# EAGLE library part PORT_EXPANSION_64_EDGE (library commodore)
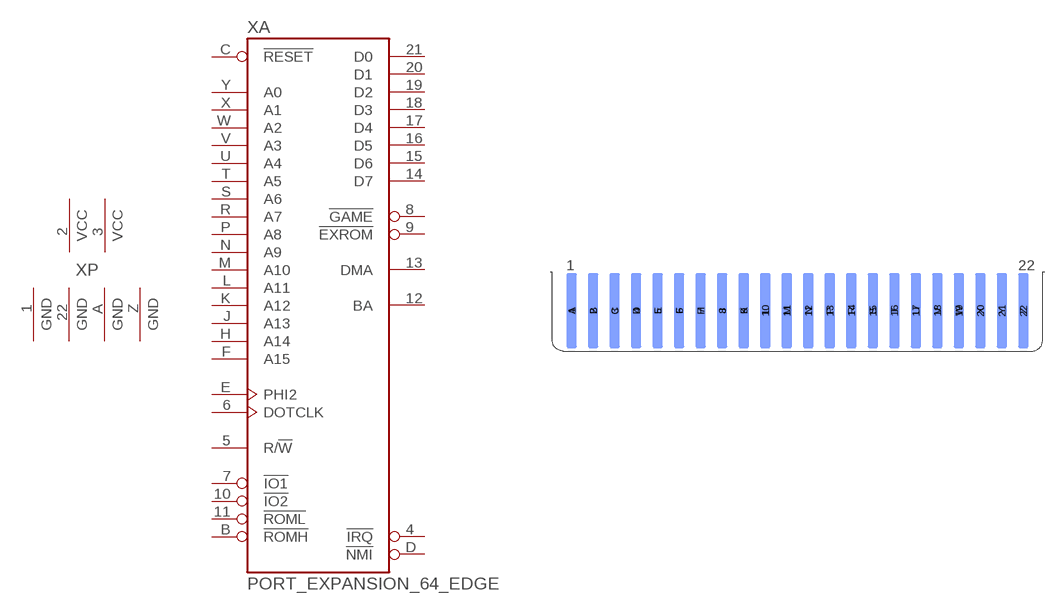
[diagram p29: symbol with the pads of MA100-22-2; footprint MA100-22-2]

Designator prefix X; gates A=PORT_EXPANSION_64_EDGE P=PWR2-GND4

## PORT_EXPANSION_64_EDGE  [MA100-22-2]
1  P:GND  pwr
2  P:VCC  pwr
3  P:VCC  pwr
4  A:!IRQ  oc
5  A:R/!W
6  A:DOTCLK  out
7  A:!IO1  out
8  A:!GAME  in
9  A:!EXROM  in
10  A:!IO2  out
11  A:!ROML  out
12  A:BA
13  A:DMA
14  A:D7
15  A:D6
16  A:D5
17  A:D4
18  A:D3
19  A:D2
20  A:D1
21  A:D0
22  P:GND  pwr
A  P:GND  pwr
B  A:!ROMH  out
C  A:!RESET  oc
D  A:!NMI  oc
E  A:PHI2  out
F  A:A15
H  A:A14
J  A:A13
K  A:A12
L  A:A11
M  A:A10
N  A:A9
P  A:A8
R  A:A7
S  A:A6
T  A:A5
U  A:A4
V  A:A3
W  A:A2
X  A:A1
Y  A:A0
Z  P:GND  pwr

## Footprint MA100-22-2 (pad centres in mm)
smd 1.27 x 8.89: 1 -26.67,-0.305; 2 -24.13,-0.305; 3 -21.59,-0.305; 4 -19.05,-0.305; 5 -16.51,-0.305; 6 -13.97,-0.305; 7 -11.43,-0.305; 8 -8.89,-0.305; 9 -6.35,-0.305; 10 -3.81,-0.305; 11 -1.27,-0.305; 12 1.27,-0.305; 13 3.81,-0.305; 14 6.35,-0.305; 15 8.89,-0.305; 16 11.43,-0.305; 17 13.97,-0.305; 18 16.51,-0.305; 19 19.05,-0.305; 20 21.59,-0.305; 21 24.13,-0.305; 22 26.67,-0.305
smd 1.27 x 8.89 bottom: A -26.67,-0.305; B -24.13,-0.305; C -21.59,-0.305; D -19.05,-0.305; E -16.51,-0.305; F -13.97,-0.305; H -11.43,-0.305; J -8.89,-0.305; K -6.35,-0.305; L -3.81,-0.305; M -1.27,-0.305; N 1.27,-0.305; P 3.81,-0.305; R 6.35,-0.305; S 8.89,-0.305; T 11.43,-0.305; U 13.97,-0.305; V 16.51,-0.305; W 19.05,-0.305; X 21.59,-0.305; Y 24.13,-0.305; Z 26.67,-0.305